# Altium footprint library UniversalFullBridge.PcbLib: 9 footprints
Each footprint in its own frame and in the unit in brackets; x right, y up, seen from the top. Pads: shape width x height; smd on the part's side, far side on the other; paste and mask are expansions set on the pad; w line width, h text height; cw(c..) or ccw(c..) is an arc to the next point about the centre after c.
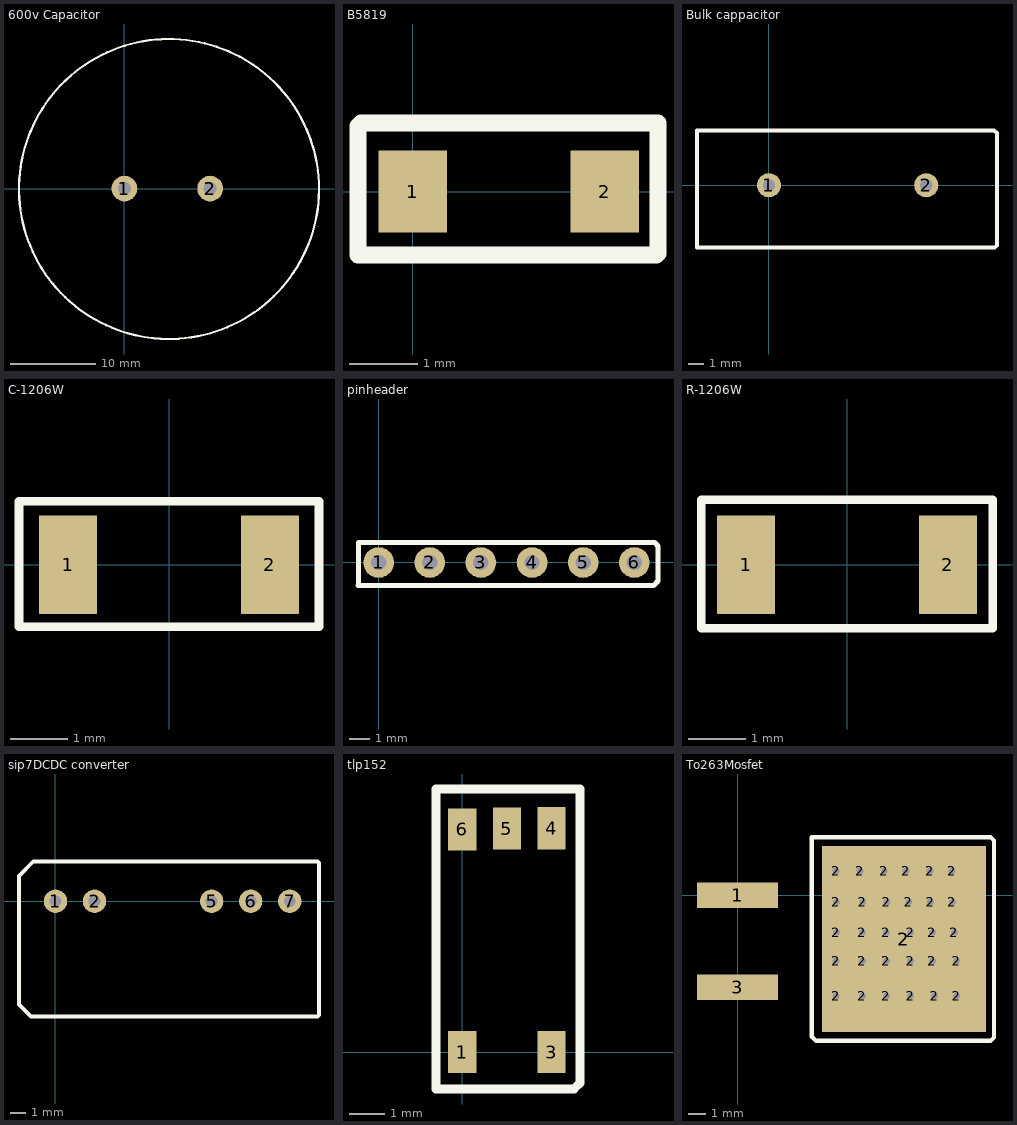
[diagram p0: the footprints below, top view; thin cyan lines are the x and y axes]

## 600v Capacitor [mm]
pads (2):
  round 3 hole 1.5: 1(0,0) 2(10,0)
Top Overlay:
  lines w0.254: 22.698,0.678 ccw(c5.2,-0.05) 22.703,0.541
3D body "User Library-Assy_CE_R400_D1200_H2000.STEP": height 49.61, standoff -8.07, extent -15.927,-21.429 27.178,21.676

## B5819 [mm]
pads (2):
  rect 1x1.2 smd: 1(0,0) 2(2.8,0)
Top Overlay:
  lines w0.254: -0.8,-0.925 -0.8,0.95 -0.75,1 3.575,1 3.575,-0.9 3.55,-0.925 -0.8,-0.925
3D body "CircuitWorks-SOD123.step": height 1.28, standoff 0.01, extent -0.45,-0.725 3.25,0.875

## Bulk cappacitor [mil]
pads (2):
  round 60 hole 30: 1(0,0) 2(391.73,0)
Top Overlay:
  lines w10: -179.13,-155.51 562.01,-155.51 567.91,-149.61 567.91,129.92 561.02,136.81 -179.13,136.81 -179.13,-155.51
3D body "User Library-RAD CAP 18_5MM.STEP": height 872.49, standoff -170.33, extent -169.29,-139.76 559.06,127.95

## C-1206W [mm] "capacitor 1206 wave soldering"
pads (2):
  rect 1x1.7 smd: 1(-1.75,0) 2(1.75,0)
Top Overlay:
  lines w0.152: -2.6,-1.075 -2.6,1.1 2.6,1.1 2.6,-1.075 2.45,-1.075 -2.6,-1.075
3D body "CAP1206.stp": height 1, standoff 0, extent -1.6,-0.8 1.6,0.8

## pinheader [mil]
pads (6):
  round 60 hole 30: 1(0,0) 2(100,0) 3(200,0) 4(300,0) 5(400,0) 6(500,0)
Top Overlay:
  lines w10: -40.35,-45.28 537.4,-45.28 546.26,-36.42 546.26,32.48 539.37,39.37 -39.37,39.37 -39.37,-44.29 -40.35,-45.28
3D body "User Library-BG301-06-A-0540-L-B 2_54mm SMD Header v8.step": height 311.52, standoff -117.61, extent -51.48,-45.28 548.52,53.15

## R-1206W [mm] "resistor 1206 wave soldering"
pads (2):
  rect 1x1.7 smd: 1(-1.75,0) 2(1.75,0)
Top Overlay:
  lines w0.152: -2.525,-1.1 -2.525,1.125 1.605,1.125 2.525,1.125 2.525,-1.1 -2.525,-1.1
3D body "RES1206.stp": height 0.55, standoff 0, extent -1.55,-0.775 1.55,0.777

## sip7DCDC converter [mil]
pads (5):
  round 60 hole 30: 1(0,0) 2(100,0) 5(400,0) 6(500,0) 7(600,0)
Top Overlay:
  lines w10: -93.5,-264.76 -93.5,64.96 -57.09,101.38 671.26,101.38 675.2,97.44 675.2,-291.34 671.26,-295.28 -62.99,-295.28 -93.5,-264.76
3D body "User Library-SIP7.STEP": height 498.53, standoff -160.92, extent -114.17,-281.5 659.45,110.24

## tlp152 [mm]
pads (5):
  rect 0.8x1.2 smd: 1(0,0) 3(2.54,0) 4(2.54,6.361) 5(1.27,6.349) 6(0,6.324)
Top Overlay:
  lines w0.254: -0.75,-1.05 0.231,-1.05 2.194,-1.05 3.175,-1.05 3.35,-0.875 3.35,7.275 3.35,7.475 -0.75,7.475 -0.75,-0.875 -0.75,-1.05
3D body "User Library-TLP-152-1.step": height 2.11, standoff 0.01, extent -0.65,-0.163 3.15,6.613

## To263Mosfet [mm]
pads (33):
  rect 4.7x1.5 smd: 1(0,0) 3(0,-5.334)
  round 1 hole 0.4: 2(5.715,1.397) 2(5.718,-5.852) 2(5.718,-3.82) 2(5.739,-2.169) 2(5.739,-0.391) 2(7.112,1.397) 2(7.242,-5.852) 2(7.242,-3.82) 2(7.242,-2.169) 2(7.263,-0.391) 2(8.509,1.397) 2(8.639,-5.852) 2(8.639,-3.82) 2(8.639,-2.169) 2(8.66,-0.391) 2(9.779,1.397) 2(9.93,-0.391) 2(10.036,-5.852) 2(10.036,-3.82) 2(10.036,-2.169) 2(11.176,1.397) 2(11.2,-0.391) 2(11.306,-3.82) 2(11.306,-2.169) 2(11.433,-5.852) 2(12.446,1.397) 2(12.47,-0.391) 2(12.576,-2.169) 2(12.703,-5.852) 2(12.703,-3.82)
  rect 9.5x10.8 smd: 2(9.652,-2.54)
Top Overlay:
  lines w0.254: 4.3,-8.2 4.3,3.375 14.675,3.375 14.875,3.175 14.875,-8.25 14.675,-8.45 4.55,-8.45 4.3,-8.2
3D body "User Library-TO263-3S.STEP": height 4.81, standoff 0.01, extent -1.942,-7.54 13.728,2.46